# EAGLE library part INA225 (library record_revc_ina225)
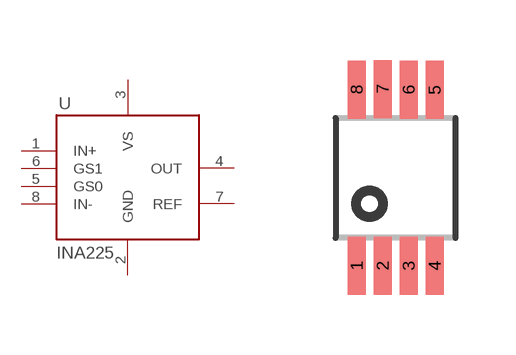
[diagram p3: symbol with the pads of MSOP8; footprint MSOP8]

Designator prefix U

## INA225  [MSOP8]
1  IN+
2  GND
3  VS
4  OUT
5  GS0
6  GS1
7  REF
8  IN-

## Footprint MSOP8 (pad centres in mm)
8M, 8-Lead, 0.118" Wide, Miniature Small Outline Package MSOP 8M-Package doc1097.pdf
smd 0.45 x 1.45: 1 -0.975,-2.2; 2 -0.325,-2.2; 3 0.325,-2.2; 4 0.975,-2.2; 5 0.975,2.2; 6 0.325,2.2; 7 -0.325,2.22; 8 -0.975,2.2